# EAGLE library part 0783FB15A0100E (library filter-johanson)
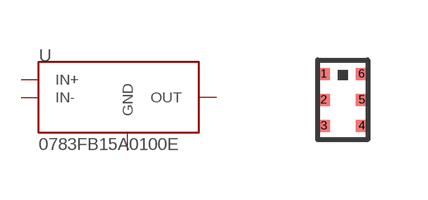
[diagram p1: symbol with the pads of FILTER-BALUN; footprint FILTER-BALUN]

Designator prefix -

## 0783FB15A0100E  [FILTER-BALUN]
1  OUT
2  GND
3  IN+
4  IN-
5  GND1
6  GND2

## Footprint FILTER-BALUN (pad centres in mm)
smd 0.3 x 0.3: 1 -0.475,0.65; 2 -0.475,0; 3 -0.475,-0.65; 4 0.475,-0.65; 5 0.475,0; 6 0.475,0.65